# Altium integrated library SummerWorkshop.IntLib: 10 symbols
Pins are listed as number, name and electrical type; pins without a type are passive.

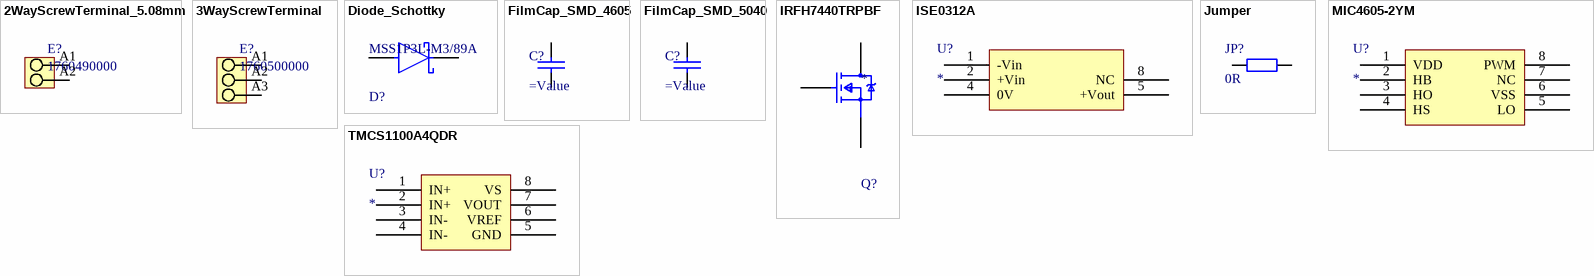
[diagram p0: symbols 2WayScrewTerminal_5.08mm to TMCS1100A4QDR]

## 2WayScrewTerminal_5.08mm
designator E?, comment 1760490000
Conn Terminal Block 2 POS 5.08mm Solder ST Thru-Hole 15A Box; Manufacturer: Weidmueller; Contact_surface: tinned; Pitch_mm: 5,08 mm; Solid_min_H05_07_V_U: 0,13 mm²; Wire_cross_section_AWG_min_UL_1059: AWG 26; Wire_cross_section_AWG_max_UL_1059: AWG 14; Rated_voltage_for_surge_voltage_class_pollution_degree_II_2: 600 V; Mounting_onto_the_PCB: Solder connection; Solder_pin_length_mm: 3,5 mm; Side_termination_characteristic: closed side; Contact_material: Cu-Leg; Pitch_inch: 0,2 inch; No_of_poles: 2; UL_94_flammability_rating: V-0; Insulating_material: Wemid (PA); Rated_voltage_use_group_B_UL_1059: 300 V; Solid_max_H05_07_V_U: 2,5 mm²; Short_text_for_material: PM 5.08/02/90 3.5SN OR BX; Voltage Rating: 300V; Current Rating: 10A; Number of Levels: 1; Max Current Rating: 16A; Connector Type: PCB,Terminal Block; Pitch: 508mm; Wire Gauge (Max): 26AWG; Wire Gauge (Min): 14AWG; Hole Diameter: 1.3mm; Stripping Length: 6mm; Wire/Cable Gauge: 24AWG; Approvals: CSA,cURus; Revision: V1; PartNumber: 1760490000; Qty: 500 PCS; ComponentLink2Description: URL Link1; Packaging: Box; Rated_current_use_group_B_UL_1059: 15 A; PackageReference: PM_5_08_90_02; ComponentLink2URL: http://catalog.weidmueller.com/catalog/Start.do?localeId=en&ObjectID=1760490000; Colour: Orange; ComponentLink1Description: Manufacturer URL; ComponentLink1URL: http://www.weidmueller.com/; Supplier 1: Digi-Key; Manufacturer Part Number: 1760490000; RoHS: Yes; Category: Terminal Blocks; Stock 1: 2610; Pricing 1: 1=1.00000, 10=0.70300, 25=0.65560, 50=0.59500, 100=0.59230, 250=0.50016, 500=0.47384, 1000=0.42120, 5000=0.38025 (USD); Mount: Through Hole; Color: Orange; Contact Material: Copper Alloy; Housing Material: Thermoplastic; Contact Plating: Tin; Housing Color: Orange; Min Operating Temperature: -50°C; Max Operating Temperature: 120°C; Number of Poles: 2; Package Quantity: 500; Number of Rows: 1; Number of Positions Per Level: 2; Current: 15A; Voltage: 300V; Termination: Solder; Number of Contacts: 2; Number of Circuits: 2; Orientation: Straight; Series: PM; Number of Positions: 2; Max Supply Voltage: 300V; Length: 11.16mm; Width: 8mm; Depth: 8mm; Radiation Hardening: No; Flammability Rating: UL94 V-0; Lead Free: Lead Free; REACH SVHC: No SVHC; ComponentLink3URL: https://datasheet.ciiva.com/823/1760490000-823936.pdf?src-supplier=Digi-Key; ComponentLink3Description: https://datasheet.ciiva.com/823/1760490000-823936.pdf?src-supplier=Digi-Key; ComponentLink4URL: https://datasheet.ciiva.com/16046/1760490000-pm-5-08-02-90-3-5sn-or-bx-en-pdf-148-16046417.pdf?src-supplier=Onlinecomponents.com; ComponentLink4Description: https://datasheet.ciiva.com/16046/1760490000-pm-5-08-02-90-3-5sn-or-bx-en-pdf-148-16046417.pdf?src-supplier=Onlinecomponents.com
footprint PM_5_08_90_02 (PM 5.08/02/90 3.5)
pins: A1, A2
1 alternate drawing of the same symbol

## 3WayScrewTerminal
designator E?, comment 1760500000
Conn Terminal Block 3 POS 5.08mm Solder ST Thru-Hole 16A Box; Manufacturer: Weidmueller; Pitch_mm: 5,08 mm; Pitch_inch: 0,2 inch; Wire_cross_section_AWG_min_UL_1059: AWG 26; Contact_surface: tinned; Contact_material: Cu-Leg; Short_text_for_material: PM 5.08/03/90 3.5SN OR BX; Rated_voltage_use_group_B_UL_1059: 300 V; Solid_min_H05_07_V_U: 0,13 mm²; Solder_pin_length_mm: 3,5 mm; Rated_voltage_for_surge_voltage_class_pollution_degree_II_2: 600 V; Mounting_onto_the_PCB: Solder connection; Solid_max_H05_07_V_U: 2,5 mm²; Side_termination_characteristic: closed side; Rated_current_use_group_B_UL_1059: 15 A; Wire_cross_section_AWG_max_UL_1059: AWG 14; Insulating_material: Wemid (PA); UL_94_flammability_rating: V-0; No_of_poles: 3; Voltage Rating: 300V; Current Rating: 10A; Number of Levels: 1; Current: 15A; Pitch: 508mm; Hole Diameter: 1.3mm; Wire Gauge (Max): 26AWG; Wire Gauge (Min): 14AWG; Stripping Length: 6mm; Wire/Cable Gauge: 24AWG; Approvals: CSA,cURus; ComponentLink2Description: URL Link1; ComponentLink1Description: Manufacturer URL; PartNumber: 1760500000; ComponentLink2URL: http://catalog.weidmueller.com/catalog/Start.do?localeId=en&ObjectID=1760500000; ComponentLink1URL: http://www.weidmueller.com/; Qty: 500 PCS; Colour: Orange; Packaging: Box; Revision: V1; PackageReference: PM_5_08_90_03; Supplier 1: Digi-Key; Manufacturer Part Number: 1760500000; RoHS: Yes; Category: Terminal Blocks; Stock 1: 2322; Pricing 1: 1=1.38000, 10=0.96800, 25=0.90320, 50=0.81980, 100=0.81610, 250=0.68912, 500=0.65286, 1000=0.58032, 5000=0.52390 (USD); Mount: Through Hole; Color: Orange; Contact Material: Copper Alloy; Contact Plating: Tin; Housing Color: Orange; Housing Material: Thermoplastic; Min Operating Temperature: -50°C; Max Operating Temperature: 120°C; Number of Rows: 1; Package Quantity: 500; Number of Poles: 3; Termination: Solder; Number of Contacts: 3; Max Current Rating: 16A; Orientation: Straight; Number of Positions Per Level: 3; Voltage: 300V; Number of Positions: 3; Series: PM; Max Supply Voltage: 300V; Number of Circuits: 3; Length: 16.2mm; Width: 8mm; Depth: 8mm; Radiation Hardening: No; Flammability Rating: UL94 V-0; RoHS Compliant: Yes; Lead Free: Lead Free; REACH SVHC: No SVHC; ComponentLink3URL: https://datasheet.ciiva.com/825/1760500000-825256.pdf?src-supplier=Digi-Key; ComponentLink3Description: https://datasheet.ciiva.com/825/1760500000-825256.pdf?src-supplier=Digi-Key; ComponentLink4URL: https://datasheet.ciiva.com/7395/1712619-7395748.pdf?src-supplier=Newark; ComponentLink4Description: https://datasheet.ciiva.com/7395/1712619-7395748.pdf?src-supplier=Newark; ComponentLink5URL: https://datasheet.ciiva.com/16071/1760500000-pm-5-08-03-90-3-5sn-or-bx-en-pdf-148-16071539.pdf?src-supplier=Onlinecomponents.com; ComponentLink5Description: https://datasheet.ciiva.com/16071/1760500000-pm-5-08-03-90-3-5sn-or-bx-en-pdf-148-16071539.pdf?src-supplier=Onlinecomponents.com
footprint PM_5_08_90_03 (PM 5.08/03/90 3.5)
pins: A1, A2, A3
1 alternate drawing of the same symbol

## Diode_Schottky
designator D?, comment MSS1P3L-M3/89A
DIODE SCHOTTKY 30V 1A MICROSMP / Rectifier Diode Schottky 30V 1A 2-Pin Micro SMP T/R; Manufacturer: Vishay; Max Junction Temp: +150°C; Max Surge Forward Current: 25A; Value: 65pF; Peak Reverse Current: 15uA; Forward Voltage: 500mV; Max Reverse Current: 250uA; Element Configuration: Single; Max Repetitive Reverse Voltage: 30V; Mouser Description: Schottky Diodes & Rectifiers 1.0 Amp 30 Volt; Device Class L2: Diodes; RoHS: TRUE; Temperature Range Low: -55°C; ComponentLink2URL: http://www.vishay.com/docs/89020/mss1p3l.pdf; Octopart: https://octopart.com/mss1p3l-m3%2F89a-vishay-42670898; Automotive: No; Height: 0.73mm; Temperature: -55°C to +150°C; Temperature Range High: +150°C; ComponentLink2Description: Datasheet; Lead Free: Yes; Digikey Description: DIODE SCHOTTKY 30V 1A MICROSMP; Forward Current: 1A; Manufacturer Part Number: MSS1P3L-M3/89A; Footprint Url: http://www.vishay.com/docs/96591/microsmp_do-219ad_fredpt.pdf; Device Class L1: Discrete Semiconductors; Capacitance: 65pF; Device Class L3: Schottky Diodes; Package: 96591; Category: Diode; Supplier 1: Digi-Key; Stock 1: 2503; Pricing 1: 1=0.30000, 10=0.24800, 100=0.13170, 500=0.08662, 1000=0.05890, 2000=0.05313 (USD); Mount: Surface Mount; Number of Pins: 2; Min Operating Temperature: -55°C; Max Operating Temperature: 150°C; Packaging: Tape and Reel; Max Surge Current: 25A; Package Quantity: 1; Average Rectified Current: 1A; Max Reverse Leakage Current: 250uA; Peak Non-Repetitive Surge Current: 25A; Max Repetitive Reverse Voltage (Vrrm): 30V; Max Forward Surge Current (Ifsm): 25A; Max Reverse Voltage (DC): 30V; Series: eSMP®; Length: 0.09inch; Width: 0.055inch; Radiation Hardening: No; REACH SVHC: Unknown; RoHS Compliant: Yes; ComponentLink1URL: https://datasheet.ciiva.com/23642/mss1p3l-23642464.pdf?src-supplier=Newark; ComponentLink1Description: https://datasheet.ciiva.com/23642/mss1p3l-23642464.pdf?src-supplier=Newark; ComponentLink3URL: https://datasheet.ciiva.com/917/mss1p3l-917251.pdf?src-supplier=Digi-Key; ComponentLink3Description: https://datasheet.ciiva.com/917/mss1p3l-917251.pdf?src-supplier=Digi-Key; ComponentLink4URL: https://datasheet.ciiva.com/917/mss1p3l-917252.pdf?src-supplier=Digi-Key; ComponentLink4Description: https://datasheet.ciiva.com/917/mss1p3l-917252.pdf?src-supplier=Digi-Key; ComponentLink5URL: https://datasheet.ciiva.com/917/mss1p3l-917253.pdf?src-supplier=Digi-Key; ComponentLink5Description: https://datasheet.ciiva.com/917/mss1p3l-917253.pdf?src-supplier=Digi-Key; ComponentLink6URL: https://datasheet.ciiva.com/8290/mss1p3l-8290391.pdf?src-supplier=Avnet; ComponentLink6Description: https://datasheet.ciiva.com/8290/mss1p3l-8290391.pdf?src-supplier=Avnet; ComponentLink7URL: https://datasheet.ciiva.com/16464/mss1p3l-16464118.pdf?src-supplier=Future+Electronics; ComponentLink7Description: https://datasheet.ciiva.com/16464/mss1p3l-16464118.pdf?src-supplier=Future+Electronics; ComponentLink8URL: https://datasheet.ciiva.com/7962/mss1p3l-7962344.pdf?src-supplier=Element14; ComponentLink8Description: https://datasheet.ciiva.com/7962/mss1p3l-7962344.pdf?src-supplier=Element14; ComponentLink9URL: https://datasheet.ciiva.com/25934/mss1p3l-25934805.pdf?src-supplier=Avnet+Europe; ComponentLink9Description: https://datasheet.ciiva.com/25934/mss1p3l-25934805.pdf?src-supplier=Avnet+Europe
footprint FP-96591-MFG
pins: 1 C, 2 A

## FilmCap_SMD_4605
designator C?
Cap Film 2.2uF 63V PET-HT 5% (10.5 X 7.6 X 5.7mm) SMD 125C Automotive T/R / CB162D0225JBC; Mfr_Name: KYOCERA AVX; Type: DEV; Dielectric: PET; Voltage Rating (DC): 40V; Copyright: Copyright (C) 2022 Ultra Librarian. All rights reserved.; Manufacturer_Part_Number: CB162D0225JBC; RefDes: RefDes; Supplier 1: Digi-Key; Manufacturer: Kyocera AVX; Manufacturer Part Number: CB162D0225JBC; RoHS: Yes; Category: Film Capacitors; Stock 1: 1170; Pricing 1: 1=3.18000, 10=2.57000, 50=2.24320, 100=1.96290 (USD); Mount: Surface Mount; Case/Package: 4030; Min Operating Temperature: -40°C; Max Operating Temperature: 125°C; Capacitance: 2.2uF; Tolerance: 5%; Packaging: Tape and Reel; Package Quantity: 900; Termination: SMD/SMT; Voltage: 63V; Series: CB; Construction: Flat; Length: 10.5mm; Height: 5.7mm; Depth: 7.6mm; Radiation Hardening: No; RoHS Compliant: Yes; ComponentLink1URL: https://datasheet.ciiva.com/11791/0900766b809bc390-11791490.pdf?src-supplier=RSComponents; ComponentLink1Description: https://datasheet.ciiva.com/11791/0900766b809bc390-11791490.pdf?src-supplier=RSComponents; ComponentLink2URL: https://datasheet.ciiva.com/16340/cb-petht-230665-16340983.pdf?src-supplier=Mouser; ComponentLink2Description: https://datasheet.ciiva.com/16340/cb-petht-230665-16340983.pdf?src-supplier=Mouser; ComponentLink3URL: https://datasheet.ciiva.com/17635/cb-petht-17635477.pdf?src-supplier=Avnet+Europe; ComponentLink3Description: https://datasheet.ciiva.com/17635/cb-petht-17635477.pdf?src-supplier=Avnet+Europe
footprint CAP_225JBC_AVX
pins: 1, 2

## FilmCap_SMD_5040
designator C?
Cap Film 4.7uF 50V PEN 10% (13 X 10.4 X 4.1mm) Stacked 125C Automotive T/R; Mfr_Name: KYOCERA AVX; Manufacturer_Part_Number: CB182E0475KBC; Type: DEV; Dielectric Material: PET; Voltage Rating (DC): 100V; Voltage Rating (AC): 63V; Dissipation Factor: 0.8%; Copyright: Copyright (C) 2022 Ultra Librarian. All rights reserved.; RefDes: RefDes; Supplier 1: Newark; Manufacturer: Kyocera AVX; Manufacturer Part Number: CB182E0475KBC; RoHS: Yes; Category: Film Capacitors; Mount: Surface Mount; Case/Package: 6054; Number of Pins: 2; Contact Plating: Tin,Matte; Min Operating Temperature: -55°C; Max Operating Temperature: 125°C; Capacitance: 4.7uF; Tolerance: 10%; Dielectric: PET; Packaging: Tape and Reel; Package Quantity: 300; Termination: Solder; Series: CB; Voltage Rating: 100V; Length: 0.602inch; Width: 0.539inch; Height: 7.1mm; Depth: 13.7mm; Radiation Hardening: No; RoHS Compliant: Yes; ComponentLink1URL: https://datasheet.ciiva.com/251/cb-petht-251749.pdf?src-supplier=Digi-Key; ComponentLink1Description: https://datasheet.ciiva.com/251/cb-petht-251749.pdf?src-supplier=Digi-Key; ComponentLink2URL: https://datasheet.ciiva.com/13404/cb-petht-230665-13404461.pdf?src-supplier=Mouser; ComponentLink2Description: https://datasheet.ciiva.com/13404/cb-petht-230665-13404461.pdf?src-supplier=Mouser; Supplier 2: Digi-Key; Stock 2: 591; Pricing 2: 1=5.43000, 10=4.89000, 50=4.23840, 100=3.69500, 500=3.04290 (USD); Case Code (Metric): 2016; Case Code (Imperial): 5040; Features: High Temperature; Height - Seated (Max): 0.162inch; REACH SVHC: No SVHC; ComponentLink3URL: http://www.farnell.com/datasheets/1959650.pdf?src-supplier=Farnell; ComponentLink3Description: http://www.farnell.com/datasheets/1959650.pdf?src-supplier=Farnell; ComponentLink4URL: http://components.arrow.com/part/dataview/0323_04083752?src-supplier=Arrow+Europe; ComponentLink4Description: http://components.arrow.com/part/dataview/0323_04083752?src-supplier=Arrow+Europe; ComponentLink5URL: http://www.kemet.com/docfinder?Partnumber=LDE&src-supplier=Digi-Key; ComponentLink5Description: http://www.kemet.com/docfinder?Partnumber=LDE&src-supplier=Digi-Key; ComponentLink6URL: http://www.farnell.com/datasheets/1959650.pdf?src-supplier=Element14; ComponentLink6Description: http://www.farnell.com/datasheets/1959650.pdf?src-supplier=Element14
footprint CAP_5040
pins: 1, 2

## IRFH7440TRPBF
designator Q?
Single N-Channel 40 V 2.4 mOhm 92 nC HEXFET® Power Mosfet - PQFN 5 x 6 mm; Manufacturer: International Rectifier; Manufacturer Part Number: IRFH7440TRPBF; Continuous Drain Current (ID): 85A; Rise Time: 45ns; Input Capacitance: 4.574nF; Max Power Dissipation: 104W; Rds On Max: 2.4mR; Fall Time: 42ns; Turn-Off Delay Time: 53ns; Drain to Source Voltage (Vdss): 40V; Turn-On Delay Time: 12ns; Threshold Voltage: 2.2V; Gate to Source Voltage (Vgs): 20V; Number of Elements: 1; Supplier 1: Newark; RoHS: Yes; Category: MOSFETs; Mount: Surface Mount; Case/Package: QFN EP; Number of Pins: 8; Min Operating Temperature: -55°C; Max Operating Temperature: 150°C; Packaging: Tape and Reel; Package Quantity: 4000; Drain to Source Breakdown Voltage: 40V; Drain to Source Resistance: 2.4mR; Power Dissipation: 104W; On-State Resistance: 2.4MR; Series: StrongIRFET™; Drain-source On Resistance-Max: 2.4MR; Length: 5.85mm; Width: 5mm; Height: 1.17mm; Radiation Hardening: No; REACH SVHC: No SVHC; Lead Free: Lead Free; RoHS Compliant: Yes; ComponentLink1URL: https://datasheet.ciiva.com/30480/0900766b811ccaf7-30480025.pdf?src-supplier=RSComponents; ComponentLink1Description: https://datasheet.ciiva.com/30480/0900766b811ccaf7-30480025.pdf?src-supplier=RSComponents; ComponentLink2URL: https://datasheet.ciiva.com/16390/irfh7440pbf-16390391.pdf?src-supplier=Future+Electronics; ComponentLink2Description: https://datasheet.ciiva.com/16390/irfh7440pbf-16390391.pdf?src-supplier=Future+Electronics; ComponentLink3URL: https://datasheet.ciiva.com/6371/irfh7440pbf-6371293.pdf?src-supplier=Digi-Key; ComponentLink3Description: https://datasheet.ciiva.com/6371/irfh7440pbf-6371293.pdf?src-supplier=Digi-Key
footprint Infineon_PG-TDSON-8_MFG
pins: 1,2,3 S, 4 G, 5,6,7,8 D

## ISE0312A
designator U?
3V - 12V Dc-dc Converter, 1W Sdm, Single O/p, Unreg; Manufacturer: XP Power; Manufacturer Part Number: ISE0312A; Number of Outputs: 1; Min Input Voltage: 2.97V; Max Input Voltage: 3.63V; Max Output Current: 84mA; Isolation Voltage: 1.5kV; Efficiency: 80%; Supplier 1: Digi-Key; RoHS: Yes; Category: Board Mount Modules; Stock 1: 1649; Pricing 1: 1=4.29000, 5=4.16400, 10=4.03500, 25=3.86320, 100=3.61200 (USD); Mount: Surface Mount,PCB; Case/Package: SMD/SMT; Min Operating Temperature: -40°C; Max Operating Temperature: 105°C; Packaging: Rail/Tube; Voltage - Output 1: 12V; Max Power Dissipation: 1W; Features: SCP; Min Input Voltage (DC): 2.97V; Max Input Voltage (DC): 3.63V; Max Output Power: 1W; Current - Output 1: 84mA; Output Power: 1W; Length: 0.5inch; Width: 0.44inch; Height: 0.29inch; Depth: 12.7mm; REACH SVHC: Unknown; RoHS Compliant: Yes; ComponentLink1URL: http://www.farnell.com/datasheets/2334158.pdf?src-supplier=Farnell; ComponentLink1Description: http://www.farnell.com/datasheets/2334158.pdf?src-supplier=Farnell; ComponentLink2URL: http://www.alliedelec.com/m/d/c82960fec94d011cb1647333c66d561d.pdf?src-supplier=Allied+Electronics; ComponentLink2Description: http://www.alliedelec.com/m/d/c82960fec94d011cb1647333c66d561d.pdf?src-supplier=Allied+Electronics; ComponentLink3URL: https://www.xppower.com/Portals/0/pdfs/SF_ISE.pdf?src-supplier=Digi-Key; ComponentLink3Description: https://www.xppower.com/Portals/0/pdfs/SF_ISE.pdf?src-supplier=Digi-Key; ComponentLink4URL: http://www.farnell.com/datasheets/1903566.pdf?src-supplier=Element14; ComponentLink4Description: http://www.farnell.com/datasheets/1903566.pdf?src-supplier=Element14; ComponentLink5URL: http://www.farnell.com/datasheets/2334158.pdf?src-supplier=Newark; ComponentLink5Description: http://www.farnell.com/datasheets/2334158.pdf?src-supplier=Newark
footprint ISE0312A
pins: 1 -Vin, 2 +Vin, 4 0V, 5 +Vout, 8 NC

## Jumper
designator JP?, comment 0R
footprint Axial 0.1
pins: 1, 2

## MIC4605-2YM
designator U?
Driver 1A 2-OUT High and Low Side Half Brdg Non-Inv 8-Pin SOIC N Tube; Manufacturer: Microchip; Manufacturer Part Number: MIC4605-2YM-T5; Number of Drivers: 2; Max Supply Voltage: 16V; Min Supply Voltage: 5.5V; Number of Outputs: 1; Rise Time: 20ns; Nominal Supply Current: 135uA; Output Voltage: 1.9V; Element Configuration: Single; Propagation Delay: 35ns; Channel Type: Independent; Supplier 1: Digi-Key; RoHS: Yes; Category: Gate Drivers; Pricing 1: 1=1.39000 (USD); Mount: Surface Mount; Case/Package: SOIC; Number of Pins: 8; Min Operating Temperature: -40°C; Max Operating Temperature: 125°C; Packaging: Tape and Reel; Package Quantity: 500; Max Output Current: 1A; Fall Time: 20ns; Length: 4.93mm; Width: 3.94mm; Height: 1.63mm; Radiation Hardening: No; RoHS Compliant: Yes; Lead Free: Lead Free; ComponentLink1URL: https://datasheet.ciiva.com/26948/getdatasheetpartid-789737-26948139.pdf?src-supplier=Verical; ComponentLink1Description: https://datasheet.ciiva.com/26948/getdatasheetpartid-789737-26948139.pdf?src-supplier=Verical; Supplier 2: Digi-Key; Stock 2: 88; Pricing 2: 1=0.95000, 25=0.78440, 100=0.72080 (USD); REACH SVHC: No SVHC; ComponentLink2URL: https://datasheet.ciiva.com/28655/1785059-28655117.pdf?src-supplier=Element14; ComponentLink2Description: https://datasheet.ciiva.com/28655/1785059-28655117.pdf?src-supplier=Element14
footprint MIC4605-2YM
pins: 1 VDD "Input Supply for Gate Drivers", 2 HB "High-Side Bootstrap Supply", 3 HO "High-Side Drive Output", 4 HS "High-Side Reference Connection", 5 LO "Low-Side Drive Output", 6 VSS "Drive Reference Supply Input. Generally connect to power ground", 7 NC "No Connect", 8 PWM "Single PWM Input"

## TMCS1100A4QDR
designator U?
Precision isolated current sensor with external reference 8-SOIC -40 to 125; Manufacturer: Texas Instruments; Manufacturer Part Number: TMCS1100A4QDR; Supplier 1: Digi-Key; RoHS: Yes; Category: Integrated Circuits (ICs); Stock 1: 2103; Pricing 1: 1=4.42000, 10=3.97300, 25=3.75640, 100=3.25550, 250=3.08856, 500=2.77136, 1000=2.75625 (USD)
footprint SOIC8_D_TEX
pins: 1 IN+, 2 IN+, 3 IN-, 4 IN-, 5 GND, 6 VREF, 7 VOUT, 8 VS